# EAGLE library part 738-202 (library con-wago_738)
Serie 738, Vierstock-Klemmenleiste für Leiterplatten Lötstifte für Stockwerk 2 und 4 um das 1/2 Rastermaß versetzt / Series 738, Quadruple-deck PCB terminal strip solder pins for deck 2 and 4 staggered by half the pin spacing Polzahl / Pole No.: 2 Rastermaß / Pitch: 5 mm Bemessungsspannung / Rated Voltage: 320 V Nennstrom / Nominal Current: 18 A Leiterquerschnitt / Conductor Size: 0.08 - 2.5 mm² Anschlusstechnik / Connection Technology: CAGE CLAMP® Lötstiftlänge: / Solder Pin Length: 4 mm Leitereinführung (zur Platine) / Conductor entry angle (to PCB): 45 ° Farbe / Color: grau / gray Stand: 01.01.2012. Die jeweils aktuellen Daten zu diesem Artikel finden Sie in unserem Produktkatalog, den Sie unter www.wago.com einsehen können. As of: 01/01/2012. Please find the newest data for this article in our product catalogue, which can be viewed under www.wago.com.
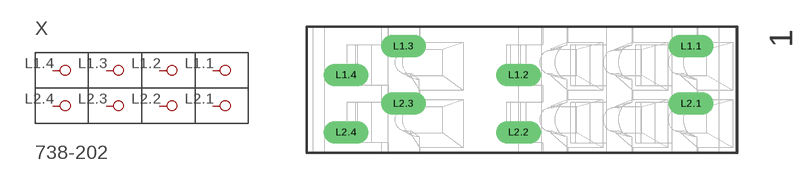
[diagram p8: symbol with the pads of P-738-202; footprint P-738-202]

Designator prefix X

## 738-202  [P-738-202]
L1.1  P1.1
L1.2  P1.2
L1.3  P1.3
L1.4  P1.4
L2.1  P2.1
L2.2  P2.2
L2.3  P2.3
L2.4  P2.4

## Footprint P-738-202 (pad centres in mm)
drill 1.3 long: L1.1 14.685,3.8; L1.2 -0.315,1.3; L1.3 -10.315,3.8; L1.4 -15.315,1.3; L2.1 14.685,-1.2; L2.2 -0.315,-3.7; L2.3 -10.315,-1.2; L2.4 -15.315,-3.7